# Altium footprint library InBoard.PcbLib: 21 footprints (part 1 of 2)
Each footprint in its own frame and in the unit in brackets; x right, y up, seen from the top. Pads: shape width x height; smd on the part's side, far side on the other; paste and mask are expansions set on the pad; w line width, h text height; cw(c..) or ccw(c..) is an arc to the next point about the centre after c.
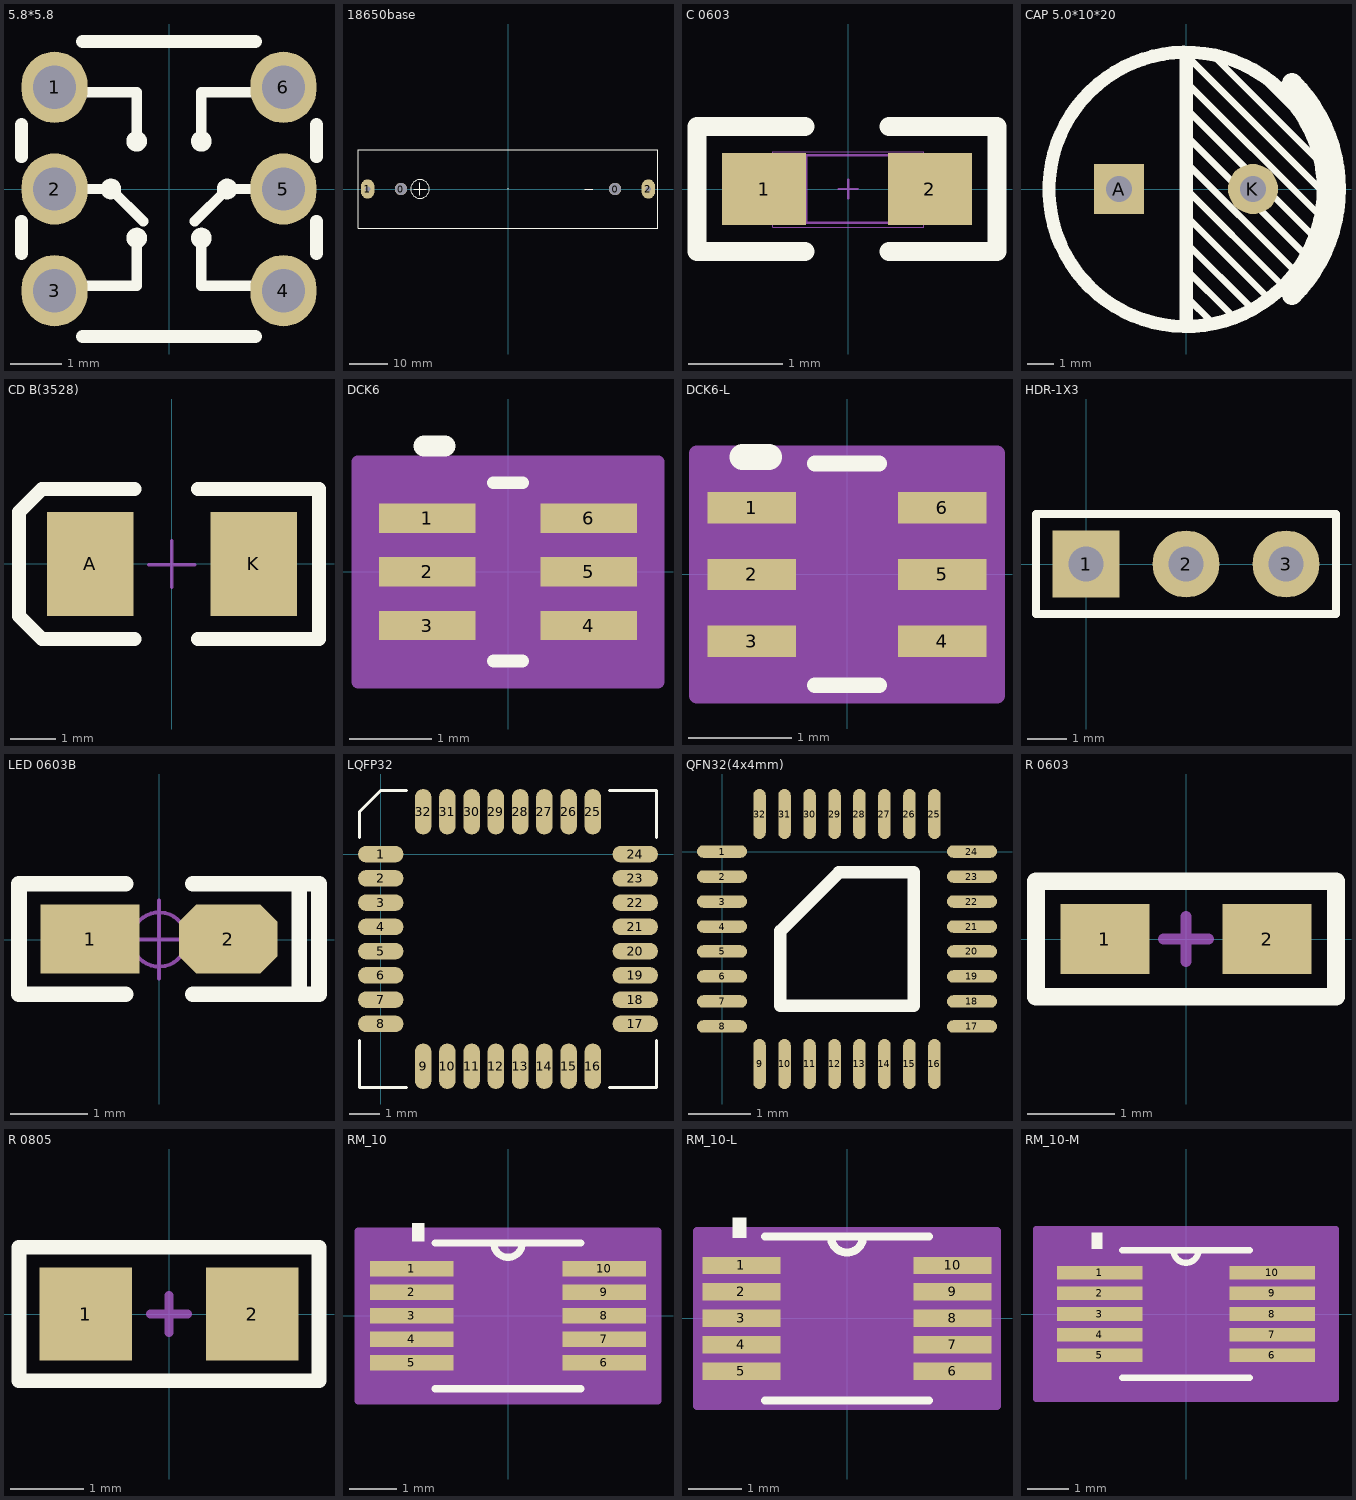
[diagram p0: the footprints below, top view; thin cyan lines are the x and y axes]

## 5.8*5.8 [mm]
pads (6):
  oval 1.3x1.4 hole 0.85: 1(-2.25,2) 2(-2.25,0) 3(-2.25,-2) 4(2.25,-2) 5(2.25,0) 6(2.25,2)
Top Overlay:
  circle w0.254: c-1.143,0 r0.076
  circle w0.254: c1.143,0 r0.076
  circle w0.254: c-0.635,-0.965 r0.076
  circle w0.254: c0.635,-0.965 r0.076
  circle w0.254: c-0.635,0.94 r0.076
  circle w0.254: c0.635,0.94 r0.076
  lines w0.203: -2.54,-1.905 -1.524,-1.905 -0.635,-1.905 -0.635,-0.889 ; -2.54,0 -1.143,0 -0.508,-0.635 ; -2.54,1.905 -0.635,1.905 -0.635,1.016 ; 0.508,-0.635 1.143,0 2.54,0 ; 0.635,-0.889 0.635,-1.905 2.54,-1.905 ; 0.635,1.016 0.635,1.905 2.54,1.905
  lines w0.254: -2.9,-1.27 -2.9,-0.635 ; -2.9,0.635 -2.9,1.27 ; -1.7,-2.9 1.7,-2.9 ; -1.7,2.9 1.7,2.9 ; 2.9,-1.27 2.9,-0.635 ; 2.9,0.635 2.9,1.27

## 18650base [mm]
pads (4):
  round 3.2 hole 3.2 unplated: 0(-27.805,0) 0(27.805,0)
  oval 3.5x5 hole 1.38 square: 1(-36.45,0) 2(36.45,0)
Top Overlay:
  circle w0.254: c-22.86,0 r2.413
  lines w0.254: -24.511,0 -21.209,0 ; -22.86,-1.651 -22.86,1.651 ; 0,0 0,0.254 ; 19.939,0 21.971,0 ; -38.85,-10.2 38.85,-10.2 38.85,10.2 -38.85,10.2 -38.85,-10.2

## C 0603 [mil] "无极性贴片电容"
pads (2):
  rect 35x30 smd: 1(-35,0) 2(34,0)
Top Overlay:
  lines w8: -18,-26 -63,-26 -63,26 -18,26 ; 17,-26 62,-26 62,26 17,26
Mechanical 13:
  lines w0.39: -31.5,-16 -31.5,15.5 31.5,15.5 31.5,-16 -31.5,-16
Mechanical 15:
  lines w1: -17.5,-14 -17.5,14 ; -3.94,0 3.94,0 ; 0,-3.94 0,3.94 ; 17.5,-14 17.5,14 ; -32,-14 -32,14 32,14 32,-14 -32,-14
3D body "C 0603.STEP": height 31.89, standoff -0.39, extent -31.5,-16.14 31.5,16.14

## CAP 5.0*10*20 [mm] "脚距5mm直径10mm高度20mm"
pads (2):
  rect 1.9x1.9 hole 1: A(-2.54,0)
  round 1.9 hole 1: K(2.54,0)
Top Overlay:
  circle w0.5: c0.006,-0.013 r5.2
  lines w0.254: 0,-1.016 3.048,-4.064 ; 0,0 3.556,-3.556 ; 0,2.032 4.572,-2.54 ; 0,3.048 4.826,-1.778 4.953,-1.778 ; 0.006,-5.082 0.006,-5.075 ; 0.006,-4.064 0.006,-4.07 1.016,-5.08 ; 0.006,-3.043 0.006,-3.05 0.006,-3.054 1.714,-4.763 ; 0.006,-2.032 0.006,-2.038 2.54,-4.572 ; 0.006,1.016 0.006,1.01 4.064,-3.048 ; 0.006,4.064 0.006,4.058 5.08,-1.016 ; 0.006,5.187 0.006,5.074 5.08,0 ; 1.016,5.08 5.08,1.016 ; 2.54,4.572 4.572,2.54
  lines w0.5: 0.006,-5.197 0.006,5.072
  lines w0.75: 4.021,-4.021 ccw(c0,0) 4.021,4.021
3D body "CAP 5X10X20.STEP": height 20.03, standoff -3.38, extent -5,-4.998 5.01,4.998

## CD B(3528) [mil] "长3.5mm，宽2.8mm，厚1.9mm"
pads (2):
  rect 75x90 smd: A(-70.87,-0.01) K(70.86,-0.01)
Top Overlay:
  lines w12: -32.51,-65.01 -112.51,-65.01 -132.51,-45.01 -132.51,44.99 -112.51,64.99 -32.51,64.99 ; 22.49,-65.01 127.49,-65.01 127.49,64.99 22.49,64.99
Mechanical 15:
  lines w3: -20.01,-0.79 19.99,-0.79 ; -0.01,-20.01 -0.01,19.99
3D body "CD B(3528).STEP": height 74.84, standoff -0.3, extent -68.92,-55.12 68.91,55.11

## DCK6 [mil]
pads (6):
  rect 46x14 smd: 1(-38.5,25.59) 2(-38.5,0) 3(-38.5,-25.59) 4(38.5,-25.59) 5(38.5,0) 6(38.5,25.59)
Top Overlay:
  lines w6: -6.93,-42.5 6.93,-42.5 ; -6.93,42.5 6.93,42.5
  lines w10: -40,60 -30,60
Mechanical 13:
  lines w0: -12,42.5 ccw(c0,42.5) 12,42.5
Mechanical 15:
  region: 71.5,-52.5 -71.5,-52.5 -71.5,52.5 71.5,52.5
  lines w6: -71.5,-52.5 71.5,-52.5 71.5,52.5 -71.5,52.5 -71.5,-52.5
3D body "DCK6.stp": height 43.1, standoff 0, extent -47.5,-42.5 47.5,42.5

## DCK6-L [mil]
pads (6):
  rect 34x12 smd: 1(-36.5,25.59) 2(-36.5,0) 3(-36.5,-25.59) 4(36.5,-25.59) 5(36.5,0) 6(36.5,25.59)
Top Overlay:
  lines w6: -12.25,-42.5 12.25,-42.5 ; -12.25,42.5 12.25,42.5
  lines w10: -40,45 -30,45
Mechanical 13:
  lines w0: -12,42.5 ccw(c0,42.5) 12,42.5
Mechanical 15:
  region: 57.5,-46.5 -57.5,-46.5 -57.5,46.5 57.5,46.5
  lines w6: -57.5,-46.5 -57.5,46.5 57.5,46.5 57.5,-46.5 -57.5,-46.5
3D body "DCK6-L.stp": height 43.1, standoff 0, extent -47.5,-42.5 47.5,42.5

## HDR-1X3 [mm] "排针，3脚"
pads (3):
  rect 1.7x1.7 hole 0.9: 1(0,0)
  round 1.7 hole 0.9: 2(2.54,0) 3(5.08,0)
Top Overlay:
  lines w0.2: -1.27,-1.27 -1.27,1.27 6.35,1.27 6.35,-1.27 -1.27,-1.27
3D body "HDR2.54-1P.STEP": height 8.5, standoff -3, extent 3.81,-1.27 6.35,1.27
3D body "HDR2.54-1P.STEP": height 8.5, standoff -3, extent 1.27,-1.27 3.81,1.27
3D body "HDR2.54-1P.STEP": height 8.5, standoff -3, extent -1.27,-1.27 1.27,1.27

## LED 0603B [mil] "蓝色0603LED"
pads (2):
  rect 50x35 smd: 1(-35,0.26)
  oct 50x35 smd: 2(35,0.26)
Top Overlay:
  lines w8: -17,-27.74 -71,-27.74 -71,-25.74 -71,28.26 -70,28.26 -17,28.26 ; 17,-27.74 70,-27.74 ; 17,28.26 71,28.26 81,28.26 81,-27.74 71,-27.74 71,26.26
Mechanical 15:
  circle w1.97: c0,0 r13.78
  lines w1.97: -19.68,0 19.68,0 ; 0,-19.68 0,19.68
3D body "LED 0603-B.STEP": height 18.36, standoff -0.16, extent -31.49,-15.79 31.5,15.79
3D body "LED 0603玻璃罩.STEP": height 23.82, standoff 8.07, extent -23.58,-15.79 23.58,15.79

## LQFP32 [mm]
pads (32):
  oval 1.5x0.55 smd: 1(0,0) 2(0,-0.8) 3(0,-1.6) 4(0,-2.4) 5(0,-3.2) 6(0,-4) 7(0,-4.8) 8(0,-5.6) 17(8.4,-5.6) 18(8.4,-4.8) 19(8.4,-4) 20(8.4,-3.2) 21(8.4,-2.4) 22(8.4,-1.6) 23(8.4,-0.8) 24(8.4,0)
  oval 0.55x1.5 smd: 9(1.4,-7) 10(2.2,-7) 11(3,-7) 12(3.8,-7) 13(4.6,-7) 14(5.4,-7) 15(6.2,-7) 16(7,-7) 25(7,1.4) 26(6.2,1.4) 27(5.4,1.4) 28(4.6,1.4) 29(3.8,1.4) 30(3,1.4) 31(2.2,1.4) 32(1.4,1.4)
Top Overlay:
  lines w0.1: -0.7,-6.15 -0.7,-7.7 0.85,-7.7 ; -0.7,0.55 -0.7,1.4 0,2.1 0.85,2.1 ; 7.55,-7.7 9.1,-7.7 9.1,-6.15 ; 7.55,2.1 9.1,2.1 9.1,0.55

## QFN32(4x4mm) [mm]
pads (32):
  oval 0.8x0.2 smd: 1(0,0) 2(0,-0.4) 3(0,-0.8) 4(0,-1.2) 5(0,-1.6) 6(0,-2) 7(0,-2.4) 8(0,-2.8) 17(4,-2.8) 18(4,-2.4) 19(4,-2) 20(4,-1.6) 21(4,-1.2) 22(4,-0.8) 23(4,-0.4) 24(4,0)
  oval 0.2x0.8 smd: 9(0.6,-3.4) 10(1,-3.4) 11(1.4,-3.4) 12(1.8,-3.4) 13(2.2,-3.4) 14(2.6,-3.4) 15(3,-3.4) 16(3.4,-3.4) 25(3.4,0.6) 26(3,0.6) 27(2.6,0.6) 28(2.2,0.6) 29(1.8,0.6) 30(1.4,0.6) 31(1,0.6) 32(0.6,0.6)
Top Overlay:
  lines w0.2: 0.935,-2.465 0.935,-1.27 1.87,-0.335 3.065,-0.335 3.065,-2.465 0.935,-2.465

## R 0603 [mil] "1/10W贴片电阻"
pads (2):
  rect 40x31.5 smd: 1(-36.5,0) 2(36.5,0)
Top Overlay:
  lines w8: -67.5,-26 67.5,-26 67.5,26 -67.5,26 -67.5,-26
Mechanical 15:
  lines w5: -10,0 10,0 ; 0,-10 0,10
3D body "R 0603.STEP": height 15.79, standoff -0.13, extent -31.49,-15.74 31.5,15.75

## R 0805 [mil] "1/8W贴片电阻"
pads (2):
  rect 50x50 smd: 1(-45,0) 2(45,0)
Top Overlay:
  lines w8: -81,-36 -81,36 81,36 81,-36 -81,-36
Mechanical 15:
  lines w5: -10,0 10,0 ; 0,-10 0,10
3D body "R 0805.STEP": height 19.72, standoff -0.24, extent -39.37,-24.6 39.37,24.61

## RM_10 [mil]
pads (10):
  rect 70x13 smd mask+4: 1(-80.5,39.37) 2(-80.5,19.68) 3(-80.5,0) 4(-80.5,-19.68) 5(-80.5,-39.37) 6(80.5,-39.37) 7(80.5,-19.68) 8(80.5,0) 9(80.5,19.68) 10(80.5,39.37)
Top Overlay:
  region: -80,77.5 -70,77.5 -70,62.5 -80,62.5
  lines w6: -61,-61 61,-61 ; -61,61 61,61 ; -12,61 ccw(c0,61) 12,61
Mechanical 13:
  lines w0: -12,61 ccw(c0,61) 12,61
Mechanical 15:
  region: 125.5,-71 -125.5,-71 -125.5,71 125.5,71
  lines w6: -125.5,-71 -125.5,71 125.5,71 125.5,-71 -125.5,-71
3D body "RM_10.stp": height 43.1, standoff 0, extent -101.5,-61 101.5,61

## RM_10-L [mil]
pads (10):
  rect 58x13 smd mask+4: 1(-78.5,39.37) 2(-78.5,19.68) 3(-78.5,0) 4(-78.5,-19.68) 5(-78.5,-39.37) 6(78.5,-39.37) 7(78.5,-19.68) 8(78.5,0) 9(78.5,19.68) 10(78.5,39.37)
Top Overlay:
  region: -85,75 -75,75 -75,60 -85,60
  lines w6: -61,-61 61,-61 ; -61,61 61,61 ; -12,61 ccw(c0,61) 12,61
Mechanical 13:
  lines w0: -12,61 ccw(c0,61) 12,61
Mechanical 15:
  region: 111.5,-65 -111.5,-65 -111.5,65 111.5,65
  lines w6: -111.5,-65 111.5,-65 111.5,65 -111.5,65 -111.5,-65
3D body "RM_10-L.stp": height 43.1, standoff 0, extent -101.5,-61 101.5,61

## RM_10-M [mil]
pads (10):
  rect 82x13 smd mask+4: 1(-82.5,39.37) 2(-82.5,19.68) 3(-82.5,0) 4(-82.5,-19.68) 5(-82.5,-39.37) 6(82.5,-39.37) 7(82.5,-19.68) 8(82.5,0) 9(82.5,19.68) 10(82.5,39.37)
Top Overlay:
  region: -90,77.5 -80,77.5 -80,62.5 -90,62.5
  lines w6: -61,-61 61,-61 ; -61,61 61,61 ; -12,61 ccw(c0,61) 12,61
Mechanical 13:
  lines w0: -12,61 ccw(c0,61) 12,61
Mechanical 15:
  region: 143.5,-81 -143.5,-81 -143.5,81 143.5,81
  lines w6: -143.5,-81 -143.5,81 143.5,81 143.5,-81 -143.5,-81
3D body "RM_10-M.stp": height 43.1, standoff 0, extent -101.5,-61 101.5,61